# Altium schematic symbol library Potentiometers.SchLib: 1 symbol
Pins are listed as number, name and electrical type; pins without a type are passive.

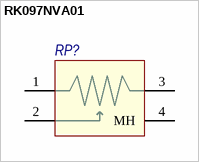
[diagram p0: symbol RK097NVA01]

## RK097NVA01
designator RP?, comment Potentiometer 10kOhm  (value not drawn)
Value: 10 кОм; ID: RK097NVA01
footprint RK097NVA01
pins: 1, 2, 3, 4 MH